# EAGLE library part 692112030100 (library Wurth_Elektronik_Electromechanic_Input-Output_Connectors_rev15c)
WR-COM USB 3.0 SMT PLUG WITH CLIPTYPE A=>Code : Con_I-O_COM_USB-3.0_A_692112030100 <http://katalog.we-online.de/media/images/eican/Con_I-O_COM_USB-3.0_A_692112030100_pf2.jpg> Details see: http://katalog.we-online.de/en/em/692_112_030_100 Created 2014-07-09, Karrer Zheng 2014 (C) Würth Elektronik
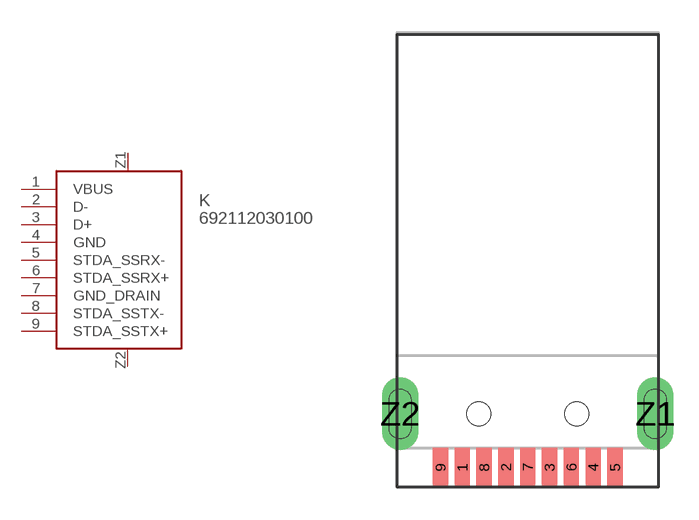
[diagram p81: symbol with the pads of 692112030100; footprint 692112030100]

Designator prefix K

## 692112030100  [692112030100]
1  VBUS
2  D-
3  D+
4  GND
5  STDA_SSRX-
6  STDA_SSRX+
7  GND_DRAIN
8  STDA_SSTX-
9  STDA_SSTX+
Z1  Z1
Z2  Z2

## Footprint 692112030100 (pad centres in mm)
WR-COM USB 3.0 SMT PLUG WITH CLIPTYPE A
smd 0.7 x 1.8: 1 -3,0; 2 -1,0; 3 1,0; 4 3,0; 5 4,0; 6 2,0; 7 0,0; 8 -2,0; 9 -4,0
drill 1 pad 1.676 long: Z1 5.85,2.45; Z2 -5.85,2.45
hole 1.1 at -2.25,2.45
hole 1.1 at 2.25,2.45